# Altium footprint library MyPcbLib.PcbLib: 42 footprints (part 1 of 3)
Each footprint in its own frame and in the unit in brackets; x right, y up, seen from the top. Pads: shape width x height; smd on the part's side, far side on the other; paste and mask are expansions set on the pad; w line width, h text height; cw(c..) or ccw(c..) is an arc to the next point about the centre after c.
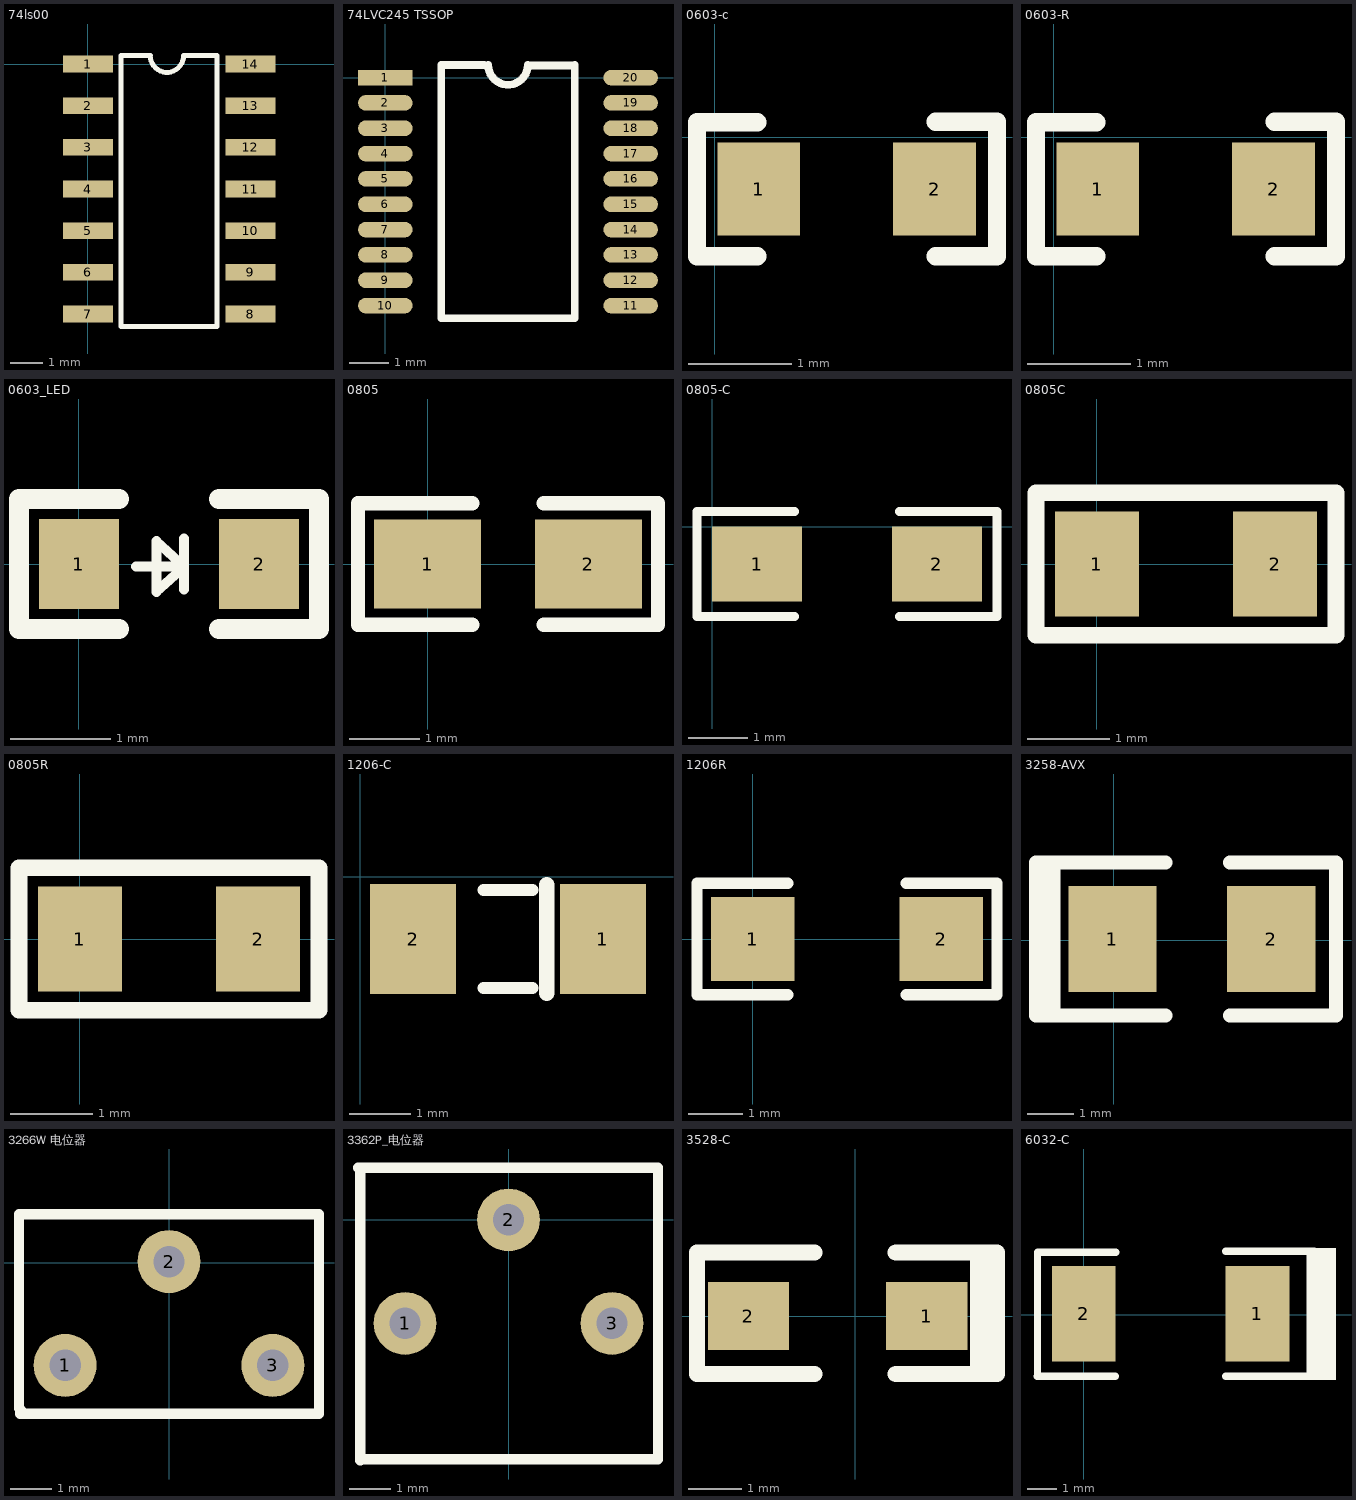
[diagram p0: the footprints below, top view; thin cyan lines are the x and y axes]

## 74ls00 [mil]
pads (14):
  rect 60x20 smd: 1(0,0) 2(0,-50) 3(0,-100) 4(0,-150) 5(0,-200) 6(0,-250) 7(0,-300) 8(195,-300) 9(195,-250) 10(195,-200) 11(195,-150) 12(195,-100) 13(195,-50) 14(195,0)
Top Overlay:
  lines w6: 40,-315 155,-315 155,10 115,10 cw(c95,10) 75,10 40,10 40,-315

## 74LVC245 TSSOP [mm]
pads (20):
  rect 1.4x0.4 smd: 1(0,0)
  oval 1.4x0.4 smd: 2(0,-0.65) 3(0,-1.3) 4(0,-1.95) 5(0,-2.6) 6(0,-3.25) 7(0,-3.9) 8(0,-4.55) 9(0,-5.2) 10(0,-5.85) 11(6.3,-5.85) 12(6.3,-5.2) 13(6.3,-4.55) 14(6.3,-3.9) 15(6.3,-3.25) 16(6.3,-2.6) 17(6.3,-1.95) 18(6.3,-1.3) 19(6.3,-0.65) 20(6.3,0)
Top Overlay:
  lines w0.2: 2.54,0.325 1.435,0.325 1.435,-6.175 4.865,-6.175 4.865,0.325 ; 2.642,0.325 ccw(c3.15,0.325) 3.658,0.325 ; 3.683,0.31 4.788,0.31

## 0603-c [mm]
pads (2):
  rect 0.8x0.9 smd: 1(0.425,-0.5) 2(2.125,-0.5)
Top Overlay:
  lines w0.178: 0.412,-1.148 -0.171,-1.148 -0.171,0.146 0.412,0.146 ; 2.139,-1.148 2.729,-1.148 2.729,0.15 2.139,0.15
3D body: height 0.89, standoff -0.01, extent -0.023,-1 2.577,0

## 0603-R [mm]
pads (2):
  rect 0.8x0.9 smd: 1(0.425,-0.5) 2(2.125,-0.5)
Top Overlay:
  lines w0.178: 0.412,-1.148 -0.171,-1.148 -0.171,0.146 0.412,0.146 ; 2.139,-1.148 2.729,-1.148 2.729,0.15 2.139,0.15
3D body: height 0.3, standoff 0, extent 0.495,-0.883 2.095,-0.083

## 0603_LED [mm]
pads (2):
  rect 0.8x0.9 smd: 1(0,0) 2(1.8,0)
Top Overlay:
  lines w0.1: 1.052,-0.254 1.052,0.254 ; 1.052,0 1.052,-0.025 ; 1.052,-0.025 0.773,-0.279 0.773,0.229 1.052,-0.025 ; 1.052,-0.025 0.57,-0.025 1.052,-0.025
  lines w0.2: 0.4,-0.65 -0.6,-0.65 -0.6,0.65 0.4,0.65 ; 1.4,-0.65 2.4,-0.65 2.4,0.65 1.4,0.65
3D body: height 0.6, standoff 0, extent 0.054,-0.375 1.674,0.425

## 0805 [mil]
pads (2):
  rect 60x50 smd: 1(0,0) 2(90,0)
Top Overlay:
  lines w8: 25,-34 -39,-34 -39,34 25,34 ; 65,-34 129,-34 129,34 65,34
3D body: height 21.65, standoff 0, extent 5.64,-24.8 84.38,24.81

## 0805-C [mil]
pads (2):
  rect 60x50 smd: 1(30,-25) 2(150,-25)
Top Overlay:
  lines w5.91: 55,-60 -10,-60 -10,10 55,10 ; 125,-60 190,-60 190,10 125,10

## 0805C [mil]
pads (2):
  rect 40x50 smd: 1(0,0) 2(85,0)
Top Overlay:
  lines w8: 114,-34 -29,-34 -29,34 114,34 114,-33
3D body: height 30.39, standoff -0.39, extent 3.15,-24.61 81.89,24.61

## 0805R [mil]
pads (2):
  rect 40x50 smd: 1(0,0) 2(85,0)
Top Overlay:
  lines w8: -29,-34 -29,34 114,34 114,-34 -29,-34
3D body: height 30.39, standoff -0.39, extent 3.26,-24.61 82,24.61

## 1206-C [mm]
pads (2):
  rect 1.4x1.8 smd: 1(3.963,-1.016) 2(0.863,-1.016)
Top Overlay:
  lines w0.2: 2.013,-1.816 2.813,-1.816 ; 2.013,-0.216 2.813,-0.216
  lines w0.254: 3.048,-1.905 3.048,-0.127
3D body: height 0.95, standoff -0.01, extent 0.351,-1.916 4.551,-0.116

## 1206R [mil]
pads (2):
  rect 60x60 smd: 1(0,0) 2(135,0)
Top Overlay:
  lines w8: 25,-40 -40,-40 -40,40 25,40 ; 110,-40 175,-40 175,40 110,40
3D body: height 23.62, standoff 0, extent 4.01,-30.49 130,32.5

## 3258-AVX [mil]
pads (2):
  rect 75x90 smd: 1(-1,1) 2(134,1)
Top Overlay:
  lines w10: -57,-59 -57,65 ; -50,-64 -50,65
  lines w12: 44,-64 -66,-64 -66,66 44,66 ; 99,-64 189,-64 189,66 99,66
3D body: height 79.92, standoff 0, extent -10.84,-59.35 134.84,56

## 3266W 电位器 [mil]
pads (3):
  round 60 hole 30: 1(-99,-98) 2(0,1) 3(99,-98)
Top Overlay:
  lines w10: -142,-144 143,-144 143,46 -143,46 -143,-139 -140,-142

## 3362P_电位器 [mil]
pads (3):
  round 60 hole 30: 1(-99,-99) 2(0,0) 3(99,-99)
Top Overlay:
  lines w10: -144,50 143,50 143,-229 -141,-229 -142,-230 -142,47 -141,48

## 3528-C [mil]
pads (2):
  rect 60x50 smd: 1(53,0) 2(-79,0)
Top Overlay:
  lines w10: 90,-44 90,47 ; 96,-43 96,43
  lines w12: -30,-43 -117,-43 -117,47 -30,47 ; 30,-43 105,-43 105,47 30,47
3D body: height 62.99, standoff 0, extent -73.99,-32.49 52,30.5

## 6032-C [mm]
pads (2):
  rect 2.2x3.3 smd: 1(5.994,0.025) 2(-0.006,0.025)
Top Overlay:
  rectangle: 7.693,-2.265 8.709,2.305
  lines w0.254: -1.611,-2.134 1.089,-2.134 ; -1.606,-2.108 -1.606,2.158 1.094,2.158 ; 4.899,-2.134 7.825,-2.134 ; 4.899,2.184 7.952,2.184